# EAGLE library part 6605425-1 (library te-ethernet)
Single Port 10/100 Base-T, Gigabit & PoE, Tab Down Description Product Facts ■ Single Port ■ Through Hole, Tab Down ■ Available with or without LEDs ■ UL Recognized ■ IEEE 802.3 & ANSI X3.263 Compliant ■ Numerous circuit options available ■ Supports all appropriate and available PHY Chips and applications ■ For assistance in part selection, please refer to the Tyco Electronics E-Catalog ■ Your Tyco Electronics Sales Representative or one of the Product Information Centers listed below are also available to assist How to order 10/100 Base-T 10/100 PoE Gigabit 6605424-1 6605432-2 1-6605444-1 6-6605425-1 1-6605310-1 6605434-1 5-6605308-1 6-6605440-1 6605445-6 Ref: Datasheet <http://www.te.com/commerce/DocumentDelivery/DDEController?Action=srchrtrv&DocNm=82066_Mod_Jacks_and_MRJ21_Prod_-_MAG45&DocType=CS&DocLang=English&s_cid=1046>
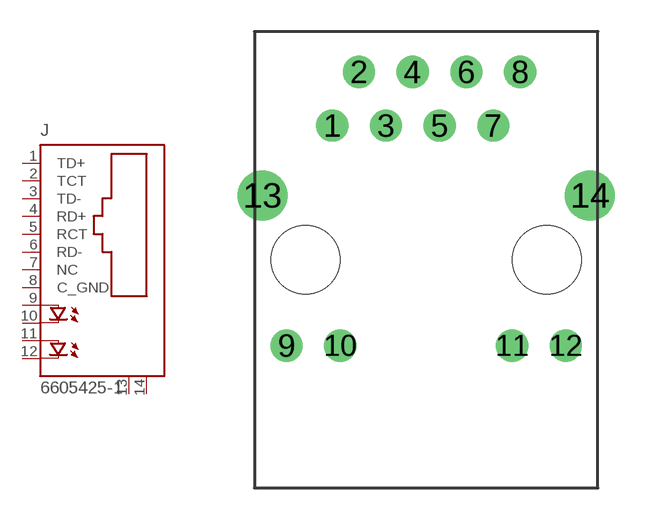
[diagram p0: symbol with the pads of RJ45-8N-2LEDS; footprint RJ45-8N-2LEDS]

Designator prefix J

## 6605425-1 (EAGLEUP: MAGRJ45-8P2LEDS-TH; MANUFACTURER: TE)  [RJ45-8N-2LEDS]
1  TD+  pas
2  TCT  pas
3  TD-  pas
4  RD+  pas
5  RCT  pas
6  RD-  pas
7  NC  pas
8  C_GND  pas
9  A  pas
10  C  pas
11  A1  pas
12  C1  pas
13  CH1  pas
14  CH2  pas

## Footprint RJ45-8N-2LEDS (pad centres in mm)
USB-A R/A TH W/ REAR 13.8mm L x 14.6mm W x 7.7mm H ----------------------------------------------
drill 1.016: 1 -4.445,6.35; 2 -3.175,8.89; 3 -1.905,6.35; 4 -0.635,8.89; 5 0.635,6.35; 6 1.905,8.89; 7 3.175,6.35; 8 4.445,8.89; 9 -6.604,-4.064; 10 -4.064,-4.064; 11 4.064,-4.064; 12 6.604,-4.064
drill 1.575: 13 -7.747,3.048; 14 7.747,3.048
hole 3.251 at -5.715,0
hole 3.251 at 5.715,0